# EAGLE library part MAX98357AETE+T (library MAX98357AETE+T)
Audio Amplifiers Digital Input Class D Amplifier Source: Datasheet <https://datasheets.maximintegrated.com/en/ds/MAX98357A-MAX98357B.pdf>
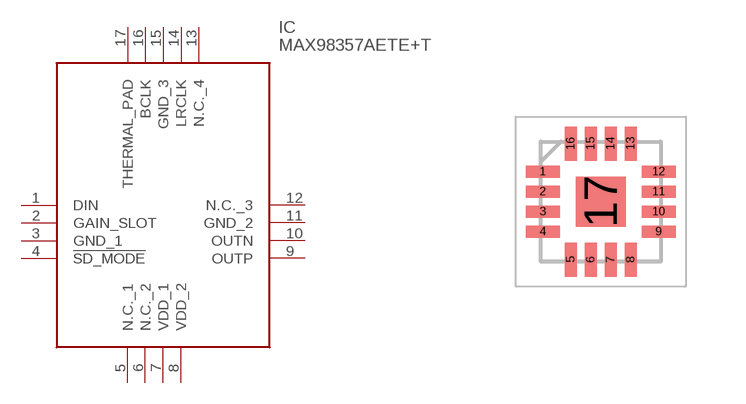
[diagram p0: symbol with the pads of QFN50P300X300X80-17N; footprint QFN50P300X300X80-17N]

Designator prefix IC

## MAX98357AETE+T (Arrow_Part_Number: MAX98357AETE+T; Arrow_Price-Stock: https://www.arrow.com/en/products/max98357aetet/analog-devices?utm_currency=USD&region=europe; Description: Audio Amplifiers Digital Input Class D Amplifier; Height: 0.8mm; Manufacturer_Name: Analog Devices; Manufacturer_Part_Number: MAX98357AETE+T; Mouser_Part_Number: 700-MAX98357AETE+T; Mouser_Price-Stock: https://www.mouser.co.uk/ProductDetail/Analog-Devices-Maxim-Integrated/MAX98357AETE%2bT?qs=AAveGqk956HhNpoJjF5x2g%3D%3D)  [QFN50P300X300X80-17N]
1  DIN
2  GAIN_SLOT
3  GND_1
4  !SD_MODE
5  N.C._1
6  N.C._2
7  VDD_1
8  VDD_2
9  OUTP
10  OUTN
11  GND_2
12  N.C._3
13  N.C._4
14  LRCLK
15  GND_3
16  BCLK
17  THERMAL_PAD

## Footprint QFN50P300X300X80-17N (pad centres in mm)
Max 21-0136_T1633-4
smd 0.85 x 0.3: 1 -1.45,0.75; 2 -1.45,0.25; 3 -1.45,-0.25; 4 -1.45,-0.75; 9 1.45,-0.75; 10 1.45,-0.25; 11 1.45,0.25; 12 1.45,0.75
smd 0.3 x 0.85: 5 -0.75,-1.45; 6 -0.25,-1.45; 7 0.25,-1.45; 8 0.75,-1.45; 13 0.75,1.45; 14 0.25,1.45; 15 -0.25,1.45; 16 -0.75,1.45
smd 1.25 x 1.25: 17 0,0